# Altium schematic symbol library MotionDetectorSchematicLib.SchLib: 9 symbols
Pins are listed as number, name and electrical type; pins without a type are passive.

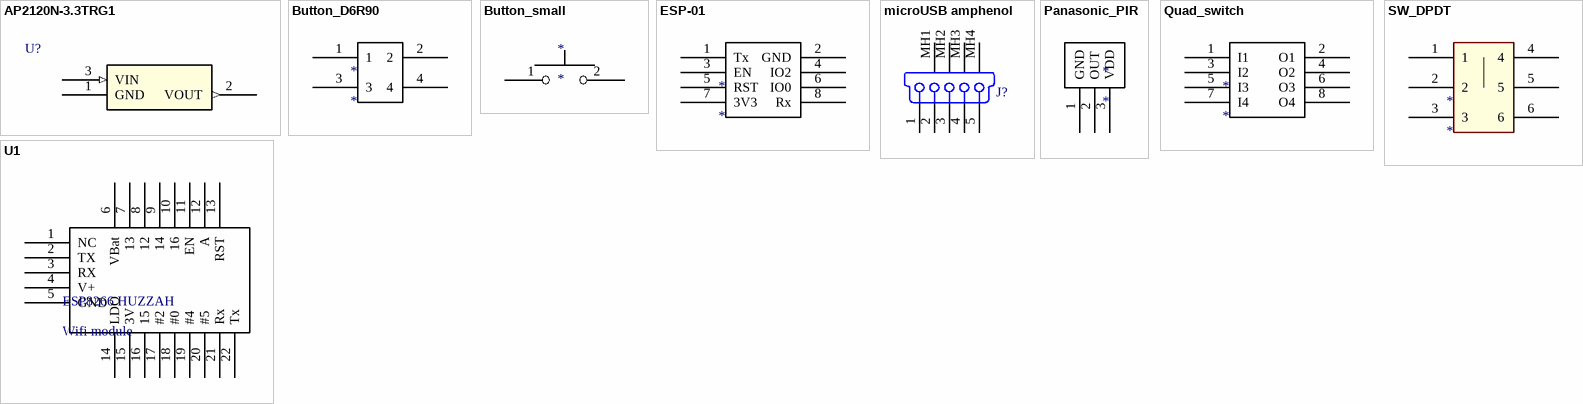
[diagram p0: symbols AP2120N-3.3TRG1 to U1]

## AP2120N-3.3TRG1
designator U?, comment Voltage Reg  (value not drawn)
Manufacturer_Part_Number: AP2120N-3.3TRG1; Vendor: Diodes Inc; Built_By: EMA_UL_Team; RefDes: RefDes; Type: DEV; Value: Value
footprint SOT-23
pins: 1 GND (power), 2 VOUT (out), 3 VIN (in)

## Button_D6R90
designator *
footprint Button_D6R90
pins: 1, 2, 3, 4

## Button_small
designator *
pins: 1, 2

## ESP-01
designator *
footprint ESP-01
pins: 1 Tx, 2 GND, 3 EN, 4 IO2, 5 RST, 6 IO0, 7 3V3, 8 Rx

## microUSB amphenol
designator J?
USB On-The-Go (OTG) Mini-B Receptacle, Right Angle, SMT, 0.80mm (.031") Pitch, Solder Tabs with Back Cover, Recessed Type; PCB_Layout: Complies with Manufacturer's Recommendation.; Published: 21-Sep-2007; DatasheetVersion: revA, May-2004; PackageVersion: May-2004; PackageReference: 481900001; Publisher: Altium Limited; PackageDescription: USB Mini-B, Sinking Type, SM; 5 Position; Right Angle, Body 11.45 x 11.8 x 3.9 mm (LxWxH); ComponentLink1Description: Manufacturer Link; ComponentLink1URL: http://www.molex.com/; ComponentLink2Description: Datasheet; ComponentLink2URL: http://www.molex.com/cmc_upload/0/000/895/958/SD-48190-001RevA.pdf
footprint mUSB connector (Connector; USB Mini-B, Sinking Type, SM; 5 Position; Right Angle)
signal-integrity model USB Mini-B
pins: 1 V BUS (5V) "USB Vcc [Red]", 2 D- "USB Data - [White]", 3 D+ "USB Data + [Green]", 4 NC "Not Connected (or joined to pin 5 via resistor)", 5 GND "Ground [Black]", MH1 Tab "Shell", MH2 Tab "Shell", MH3 Tab "Shell", MH4 Tab "Shell"

## Panasonic_PIR
designator *
footprint Panasonic_PIR
pins: 1 GND, 2 OUT, 3 VDD

## Quad_switch
designator *
pins: 1 I1, 2 O1, 3 I2, 4 O2, 5 I3, 6 O3, 7 I4, 8 O4

## SW_DPDT
designator *
footprint SW_DPDT
pins: 1, 2, 3, 4, 5, 6

## U1
designator ESP8266 HUZZAH, comment Wifi module
footprint ESP8266 HUZZAH - duplicate
pins: 1 NC, 2 TX, 3 RX, 4 V+, 5 GND, 6 VBat, 7 13, 8 12, 9 14, 10 16, 11 EN, 12 A, 13 RST, 14 LDO, 15 3V, 16 15, 17 #2, 18 #0, 19 #4, 20 #5, 21 Rx, 22 Tx